# Altium footprint library PCB - CONNECTOR - TAOGLAS - TAOGLAS EMPCB.SMAFSTJ.C.HT.PCBLIB: 1 footprints
Each footprint in its own frame and in the unit in brackets; x right, y up, seen from the top. Pads: shape width x height; smd on the part's side, far side on the other; paste and mask are expansions set on the pad; w line width, h text height; cw(c..) or ccw(c..) is an arc to the next point about the centre after c.
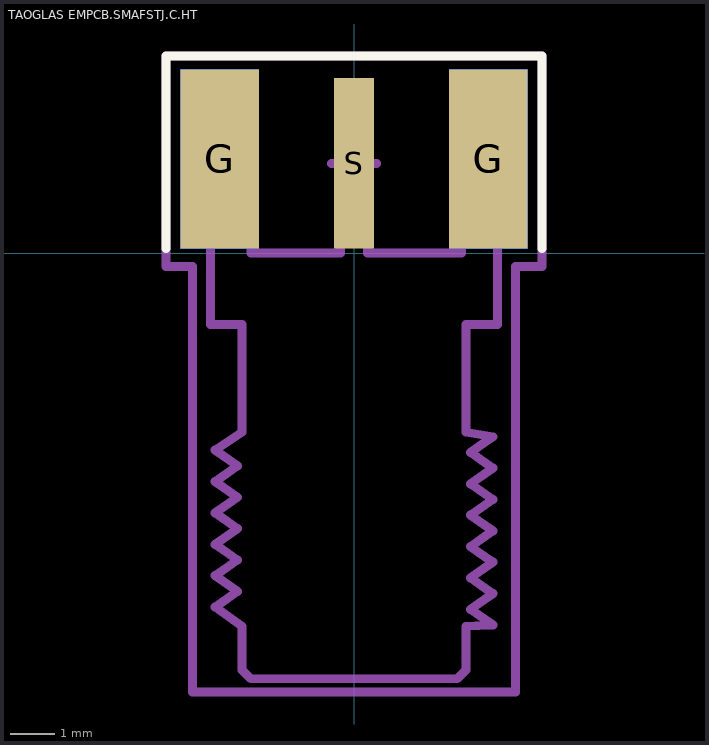
[diagram p0: the footprint, top view; thin cyan lines are the x and y axes]

## TAOGLAS EMPCB.SMAFSTJ.C.HT [mm] "SMA Straight PCB Edge Mount/End Launch, Jack, Nickel, 50Ω, Connector Solder Attachment"
height 3.55
pads (5):
  rect 1.75x4 smd paste+0: G(-3,2.1) G(3,2.1)
  rect 1.75x4 smd far side paste+0: G(-3,2.1) G(3,2.1)
  rect 0.9x3.8 smd paste+0: S(0,2)
Top Overlay:
  lines w0.2: -4.2,0.1 -4.2,4.4 4.2,4.4 4.2,0.1
Top Component Center:
  lines w0.2: -0.5,2 0.5,2 ; 0,1.5 0,2.5
Top Component Outline:
  lines w0.2: -3.2,-1.6 -3.2,3.8 -2.3,3.8 -2.3,0 -0.3,0 -0.3,3.8 0.3,3.8 0.3,0 2.4,0 2.4,3.8 3.2,3.8 3.2,-1.6 2.5,-1.6 2.5,-4 3.1,-4.1 2.6,-4.45 3.1,-4.8 2.6,-5.15 3.1,-5.5 2.6,-5.85 3.1,-6.2 2.6,-6.55 3.1,-6.9 2.6,-7.25 3.1,-7.6 2.6,-7.95 3.1,-8.3 2.5,-8.329 2.5,-9.3 2.3,-9.5 0,-9.5 -2.3,-9.5 -2.5,-9.3 -2.5,-8.329 -3.1,-7.9 -2.6,-7.55 -3.1,-7.2 -2.6,-6.85 -3.1,-6.5 -2.6,-6.15 -3.1,-5.8 -2.6,-5.45 -3.1,-5.1 -2.6,-4.75 -3.1,-4.4 -2.5,-4 -2.5,-1.6 -3.2,-1.6
Top Courtyard (Mech15):
  lines w0.2: -4.2,-0.3 -4.2,4.4 4.2,4.4 4.2,-0.3 3.6,-0.3 3.6,-9.8 -3.6,-9.8 -3.6,-0.3 -4.2,-0.3
3D body "Taoglas EMPCB.SMAFSTJ.C.HT.step": height 3.57, standoff -2.82, extent -3.2,-9.5 3.2,3.8